# EAGLE library part SN65HVD1050D (library lib_paul)
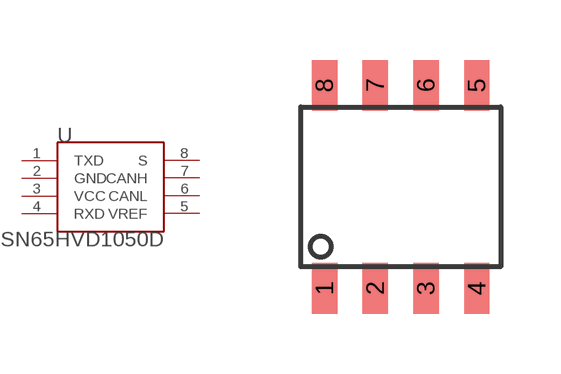
[diagram p20: symbol with the pads of SOIC8; footprint SOIC8]

Designator prefix -

## SN65HVD1050D  [SOIC8]
1  TXD
2  GND
3  VCC
4  RXD
5  VREF
6  CANL
7  CANH
8  S

## Footprint SOIC8 (pad centres in mm)
smd 0.635 x 1.27: 1 -1.905,-2.54; 2 -0.635,-2.54; 3 0.635,-2.54; 4 1.905,-2.54; 5 1.905,2.54; 6 0.635,2.54; 7 -0.635,2.54; 8 -1.905,2.54